# EAGLE library part ADP5092 (library STAC)
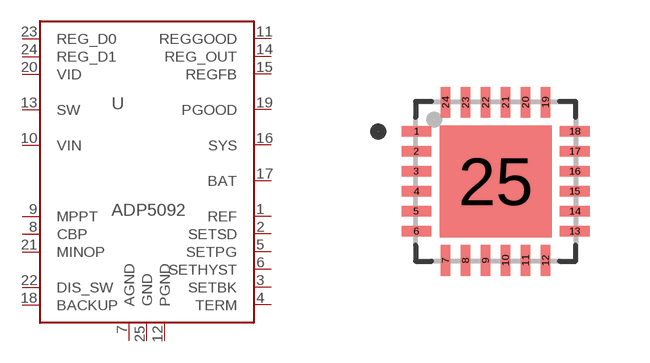
[diagram p14: symbol with the pads of QFN50P400X400X100-25N; footprint QFN50P400X400X100-25N]

Designator prefix U

## ADP5092  [QFN50P400X400X100-25N]
1  REF
2  SETSD
3  SETBK
4  TERM
5  SETPG
6  SETHYST
7  AGND
8  CBP
9  MPPT
10  VIN
11  REGGOOD
12  PGND
13  SW
14  REG_OUT
15  REGFB
16  SYS
17  BAT
18  BACKUP
19  PGOOD
20  VID
21  MINOP
22  DIS_SW
23  REG_D0
24  REG_D1
25  GND

## Footprint QFN50P400X400X100-25N (pad centres in mm)
smd 0.76 x 0.26: 1 -1.98,1.25; 2 -1.98,0.75; 3 -1.98,0.25; 4 -1.98,-0.25; 5 -1.98,-0.75; 6 -1.98,-1.25; 13 1.98,-1.25; 14 1.98,-0.75; 15 1.98,-0.25; 16 1.98,0.25; 17 1.98,0.75; 18 1.98,1.25
smd 0.26 x 0.76: 7 -1.25,-1.98; 8 -0.75,-1.98; 9 -0.25,-1.98; 10 0.25,-1.98; 11 0.75,-1.98; 12 1.25,-1.98; 19 1.25,1.98; 20 0.75,1.98; 21 0.25,1.98; 22 -0.25,1.98; 23 -0.75,1.98; 24 -1.25,1.98
smd 2.8 x 2.8: 25 0,0